# Altium schematic symbol library ANT,2.45GHz,Meander,ST_AN5129.SchLib: 1 symbol
Pins are listed as number, name and electrical type; pins without a type are passive.

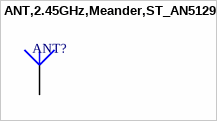
[diagram p0: symbol ANT,2.45GHz,Meander,ST_AN5129]

## ANT,2.45GHz,Meander,ST_AN5129
designator ANT?
pins: 1